# Altium footprint library CLAP.PcbLib: 265 footprints (part 3 of 17)
Each footprint in its own frame and in the unit in brackets; x right, y up, seen from the top. Pads: shape width x height; smd on the part's side, far side on the other; paste and mask are expansions set on the pad; w line width, h text height; cw(c..) or ccw(c..) is an arc to the next point about the centre after c.
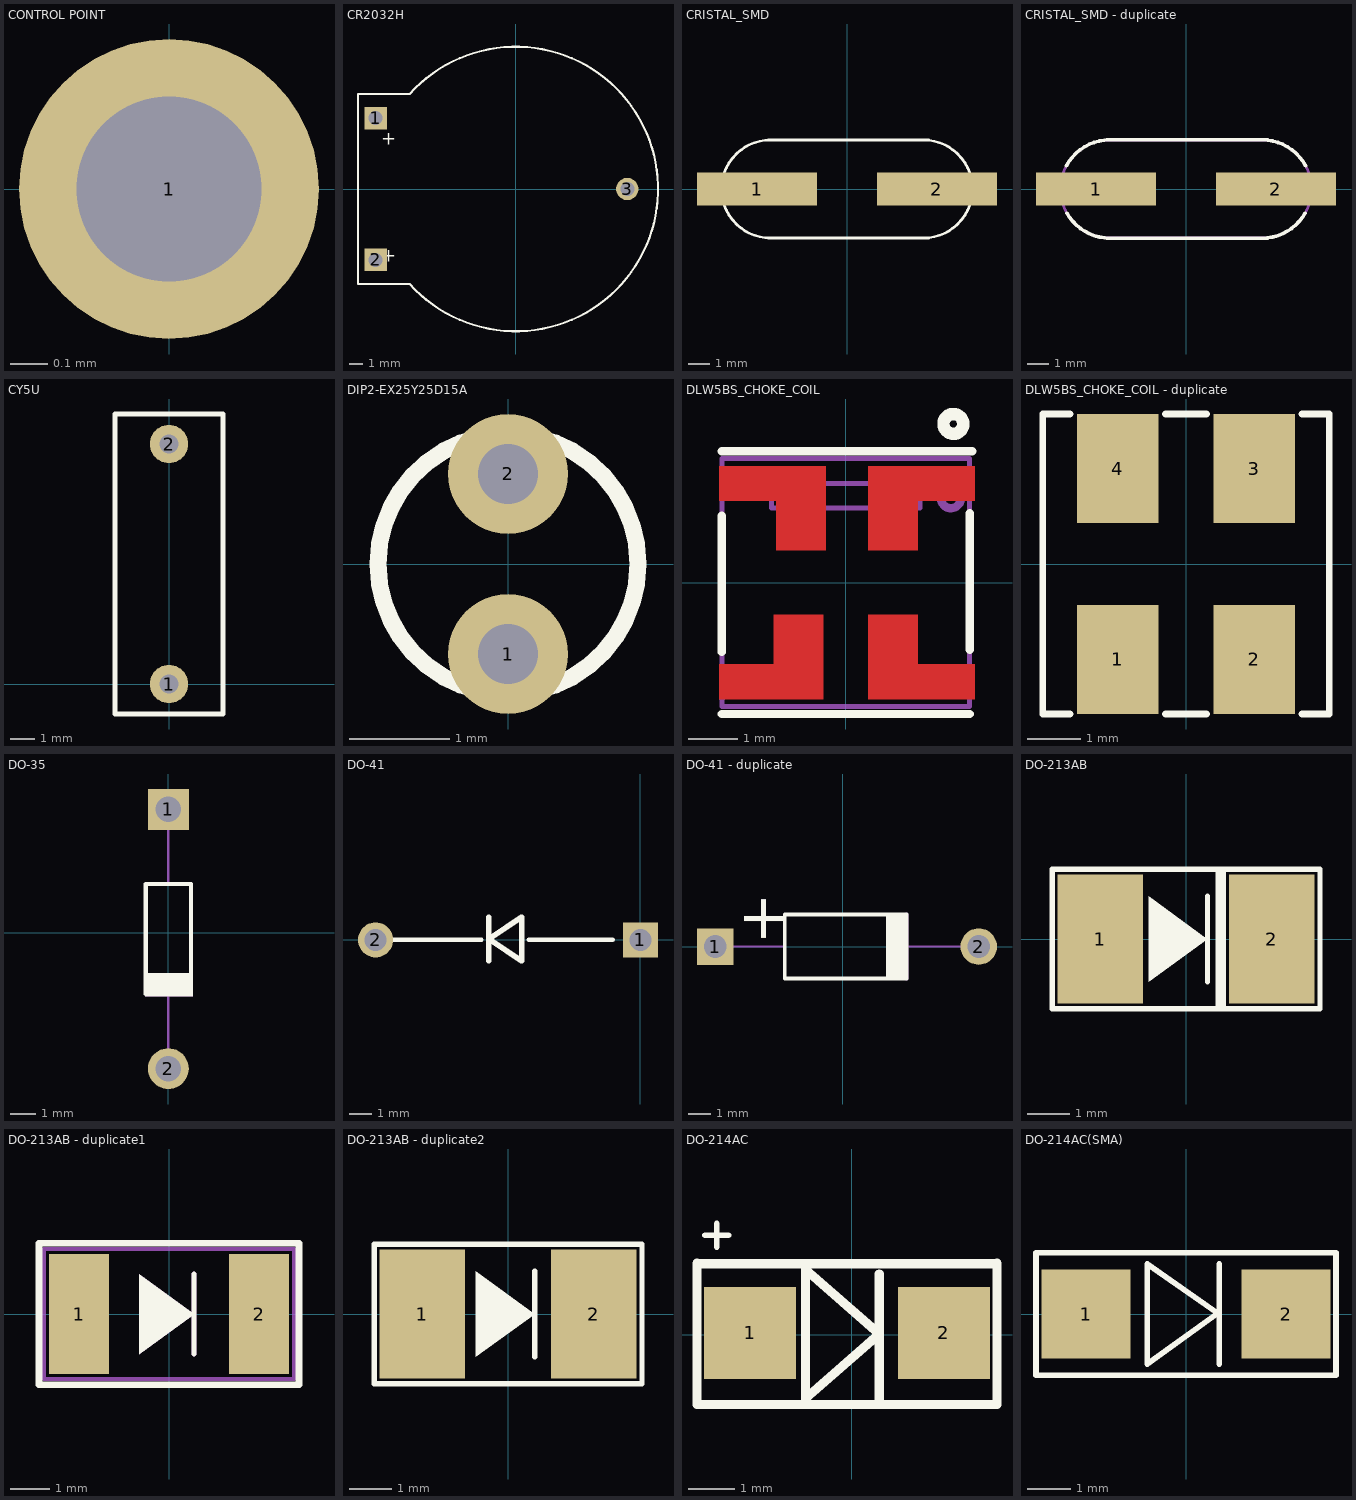
[diagram p2: the footprints below, top view; thin cyan lines are the x and y axes]

## CONTROL POINT [mil]
pads (1):
  round 32 hole 19.68: 1(0,0)

## CR2032H [mm]
height 5
pads (3):
  rect 1.6x1.6 hole 1: 1(-10.033,5.08) 2(-10.033,-5.08)
  round 1.6 hole 1: 3(8,0)
Top Overlay:
  lines w0.152: -7.6,-6.8 -11.3,-6.8 -11.3,6.8 -7.6,6.8 ; -7.592,-6.812 ccw(c0,0) -7.592,6.812
  text "+" at -9.625,-5.215 h0.95
  text "+" at -9.625,3.185 h0.95

## CRISTAL_SMD [mil]
pads (2):
  rect 220x60 smd: 1(-165,0) 2(165,0)
Top Overlay:
  lines w5: -145,-90 150,-90 ; -145,90 150,90 ; -140,-90 cw(c-140,0) -140,90 ; 140,-90 ccw(c140,0) 140,90
3D body "User Library-HC49US.STEP": height 165.35, standoff 0, extent -253.93,-92.52 246.07,92.52

## CRISTAL_SMD - duplicate [mil]
pads (2):
  rect 220x60 smd: 1(-165,0) 2(165,0)
Top Overlay:
  lines w6.69: -219.39,42.39 cw(c-140,0) -140,90 ; -218.41,-44.18 ccw(c-140,0) -140,-90 ; -145,-90 150,-90 ; -145,90 150,90 ; 140,-90 ccw(c140,0) 218.41,-44.18 ; 140,90 cw(c140,0) 219.39,42.39
Mechanical 1:
  lines w5: -145,-90 150,-90 ; -145,90 150,90 ; -140,-90 cw(c-140,0) -140,90 ; 140,-90 ccw(c140,0) 140,90
3D body "User Library-HC49US.STEP": height 165.35, standoff 0, extent -244.41,-92.52 255.59,92.52

## CY5U [mm]
pads (2):
  round 1.6 hole 0.8: 1(0,0) 2(0,10)
Top Overlay:
  lines w0.2: -2.25,-1.25 -2.25,11.25 2.25,11.25 2.25,-1.25 -2.25,-1.25
3D body "C_Rect_L13.0mm_W4.0mm_P10.00mm_FKS3_FKP3_MKS4.step": height 10, standoff -1.9, extent -2,-1.34 2,11.66

## DIP2-EX25Y25D15A [mm]
height 5
pads (2):
  round 1.2 hole 0.6: 1(0,-0.9) 2(0,0.9)
Top Overlay:
  circle w0.17: c0,0 r1.3
Mechanical 1:
  circle w0.1: c0,0 r1.3
3D body "CAPRD180.STEP": height 7.5, standoff -2, extent -1.5,-1.5 1.5,1.5

## DLW5BS_CHOKE_COIL [mm]
height 0.06
pads (4):
  round 0 smd paste-25.4 mask-25.4: 1(1,1.5) 2(-0.95,1.6) 3(-1,-1.5) 4(1,-1.6)
Top Layer:
  region: 2.6,2.35 2.6,1.65 1.7,1.65 1.7,2.35
  region: 2.6,-1.65 2.6,-2.35 1.7,-2.35 1.7,-1.65
  region: -1.65,2.35 -1.65,1.65 -2.55,1.65 -2.55,2.35
  region: -1.65,-1.65 -1.65,-2.35 -2.55,-2.35 -2.55,-1.65
  region: -0.45,-0.65 -1.45,-0.65 -1.45,-1.65 -1.75,-1.65 -1.75,-2.35 -0.45,-2.35
  region: -0.4,2.35 -1.7,2.35 -1.7,1.65 -1.4,1.65 -1.4,0.65 -0.4,0.65
  region: 0.45,-2.35 1.75,-2.35 1.75,-1.65 1.45,-1.65 1.45,-0.65 0.45,-0.65
  region: 0.45,0.65 1.45,0.65 1.45,1.65 1.75,1.65 1.75,2.35 0.45,2.35
Top Overlay:
  circle w0.25: c2.17,3.2 r0.2
  lines w0.17: -2.5,-2.65 2.5,-2.65 ; -2.5,-1.4 -2.5,1.35 ; -2.5,2.65 2.55,2.65 ; 2.5,-1.35 2.5,1.4
Top Paste:
  region: 2.55,-2.35 0.45,-2.35 0.45,-0.65 1.45,-0.65 1.45,-1.65 2.55,-1.65
  region: -2.5,-2.35 -2.5,-1.65 -1.45,-1.65 -1.45,-0.65 -0.45,-0.65 -0.45,-2.35
  region: 2.5,2.35 2.5,1.65 1.45,1.65 1.45,0.65 0.45,0.65 0.45,2.35
  region: -2.5,2.35 -0.4,2.35 -0.4,0.65 -1.4,0.65 -1.4,1.65 -2.5,1.65
Mechanical 1:
  circle w0.17: c2.12,1.7 r0.2
  lines w0.1: -2.5,-2.5 2.5,-2.5 2.5,2.5 -2.5,2.5 -2.5,-2.5 ; -1.5,1.5 1.5,1.5 1.5,2 -1.5,2 -1.5,1.5
3D body: height 4.6, standoff 0.1, extent -2.5,-2.5 2.5,2.5

## DLW5BS_CHOKE_COIL - duplicate [mil]
pads (4):
  rect 60x80 smd: 1(-50,-70) 2(50,-70) 3(50,70) 4(-50,70)
Top Overlay:
  lines w5: -85,-110 -105,-110 -105,110 -85,110 ; -15,-110 15,-110 ; -15,110 15,110 ; 85,-110 105,-110 105,110 85,110
3D body "INDDFN4_500X500X450L170X220.STEP": height 177.17, standoff 0, extent -98.43,-98.42 98.42,98.43

## DO-35 [mm]
pads (2):
  rect 1.6x1.6 hole 1: 1(0,4.826)
  round 1.6 hole 1: 2(0,-5.334)
Top Overlay:
  region: -0.889,-1.6 0.965,-1.6 0.965,-2.489 -0.914,-2.489
  lines w0.17: -0.889,-2.413 0.889,-2.413 0.889,1.905 -0.889,1.905 -0.889,-2.413
Mechanical 1:
  region: -0.914,-2.489 0.965,-2.489 0.965,-1.6 -0.889,-1.6
  lines w0.1: 0,-5.461 0,-2.413 ; 0,1.905 0,4.953 ; -0.889,-2.413 0.889,-2.413 0.889,1.905 -0.889,1.905 -0.889,-2.413
3D body "D_DO-35_SOD27_P10.16mm_Horizontal.step": height 2.51, standoff -2.5, extent -1.008,-5.328 1.008,5.328

## DO-41 [mm]
pads (2):
  rect 1.6x1.6 hole 1: 1(0,0)
  round 1.6 hole 1: 2(-12.065,0)
Top Overlay:
  lines w0.2: -11.303,0 -7.239,0 ; -5.08,0 -1.27,0
  lines w0.254: -6.902,-0.96 -6.902,1.04 ; -6.902,0.04 -5.402,-0.96 -5.402,1.04 -6.902,0.04
3D body "D_DO-41_SOD81_P12.70mm_Horizontal.step": height 3.21, standoff -2.5, extent -12.697,-1.357 0.797,1.357

## DO-41 - duplicate [mm]
pads (2):
  rect 1.6x1.6 hole 1: 1(-5.588,0)
  round 1.6 hole 1: 2(5.969,0)
Top Overlay:
  region: 2.794,-1.397 1.905,-1.397 1.905,1.397 2.794,1.397
  lines w0.17: 2.794,-1.397 -2.54,-1.397 -2.54,1.397 2.794,1.397
  lines w0.178: 2.794,-1.397 2.794,1.397
  text "+" at -2.616,0.072 h1.98
Mechanical 1:
  region: 2.794,1.397 1.905,1.397 1.905,-1.397 2.794,-1.397
  lines w0.1: -5.588,0 -2.54,0 ; 2.794,-1.397 -2.54,-1.397 -2.54,1.397 2.794,1.397 ; 2.921,0 5.969,0
  lines w0.178: 2.794,-1.397 2.794,1.397
  text "+" at -2.616,0.072 h1.98
3D body "D_DO-41_SOD81_P12.70mm_Horizontal.step": height 3.21, standoff -2.5, extent -6.597,-1.357 6.897,1.357

## DO-213AB [mil]
pads (2):
  rect 80x120 smd: 1(-80,0) 2(80,0)
Top Overlay:
  region: -35,40 -35,-40 20,0
  lines w5: 20,-40 20,40 ; -125,-65 125,-65 125,65 -125,65 -125,-65
  lines w10: 32.5,-62.5 32.5,62.5
3D body "D_SMB.step": height 84.65, standoff 0, extent -104.33,-69.88 104.33,69.88

## DO-213AB - duplicate1 [mil]
pads (2):
  rect 60x120 smd: 1(-90,0) 2(90,0)
Top Overlay:
  region: -30,40 -30,-40 25,0
  lines w5: 25,-40 25,40
  lines w6.69: -129.92,-70.87 -129.92,70.87 129.92,70.87 129.92,-70.87 -129.92,-70.87
Mechanical 1:
  region: -30,40 -30,-40 25,0
  lines w3.94: -125,-65 -125,65 125,65 125,-65 -125,-65
  lines w5: 25,-40 25,40
3D body "D_SMB.step": height 84.65, standoff 0, extent -104.33,-69.89 104.33,69.88

## DO-213AB - duplicate2 [mil]
pads (2):
  rect 80x120 smd: 1(-80,0) 2(80,0)
Top Overlay:
  region: -30,40 -30,-40 25,0
  lines w5: 25,-40 25,40 ; -125,-65 -125,65 125,65 125,-65 -125,-65
3D body "D_SMB.step": height 84.65, standoff 0, extent -104.33,-69.88 104.33,69.88

## DO-214AC [mm]
pads (2):
  rect 2x2 smd: 1(-2.2,0.04) 2(2,0.04)
Top Overlay:
  lines w0.127: -3.175,2.159 -2.667,2.159 ; -2.921,1.905 -2.921,2.413
  lines w0.2: -3.35,-1.51 3.15,-1.51 ; -3.35,-1.5 -3.35,1.55 ; -3.35,1.54 3.15,1.54 ; 0.6,-1.38 0.6,1.32 ; 3.15,-1.5 3.15,1.55 ; -1,-1.38 0.6,0.02 -1,1.42 -1,-1.38
3D body "D_SMA.step": height 2.22, standoff 0, extent -2.5,-1.35 2.5,1.35

## DO-214AC(SMA) [mil]
pads (2):
  rect 80x80 smd: 1(-90,0) 2(90,0)
Top Overlay:
  lines w5: 30,-45 30,45 ; -135,-55 -135,55 135,55 135,-55 -135,-55 ; -35,-45 -35,45 28.62,0.79 -35,-45
3D body "D_SMA.step": height 87.4, standoff 0, extent -98.43,-53.15 98.42,53.15